# Altium schematic symbol library REG113.Schlib: 1 symbol
Pins are listed as number, name and electrical type; pins without a type are passive.

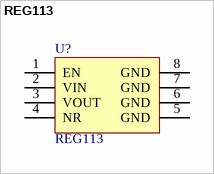
[diagram p0: symbol REG113]

## REG113
designator U?
pins: 1 EN, 2 VIN, 3 VOUT, 4 NR, 5 GND, 6 GND, 7 GND, 8 GND